# EAGLE library part XC2V80-4FG256C (library Xilinx_VirtexII-xc2v80-4fg256C)
Xilinx Virtex II, Schinko. Baier
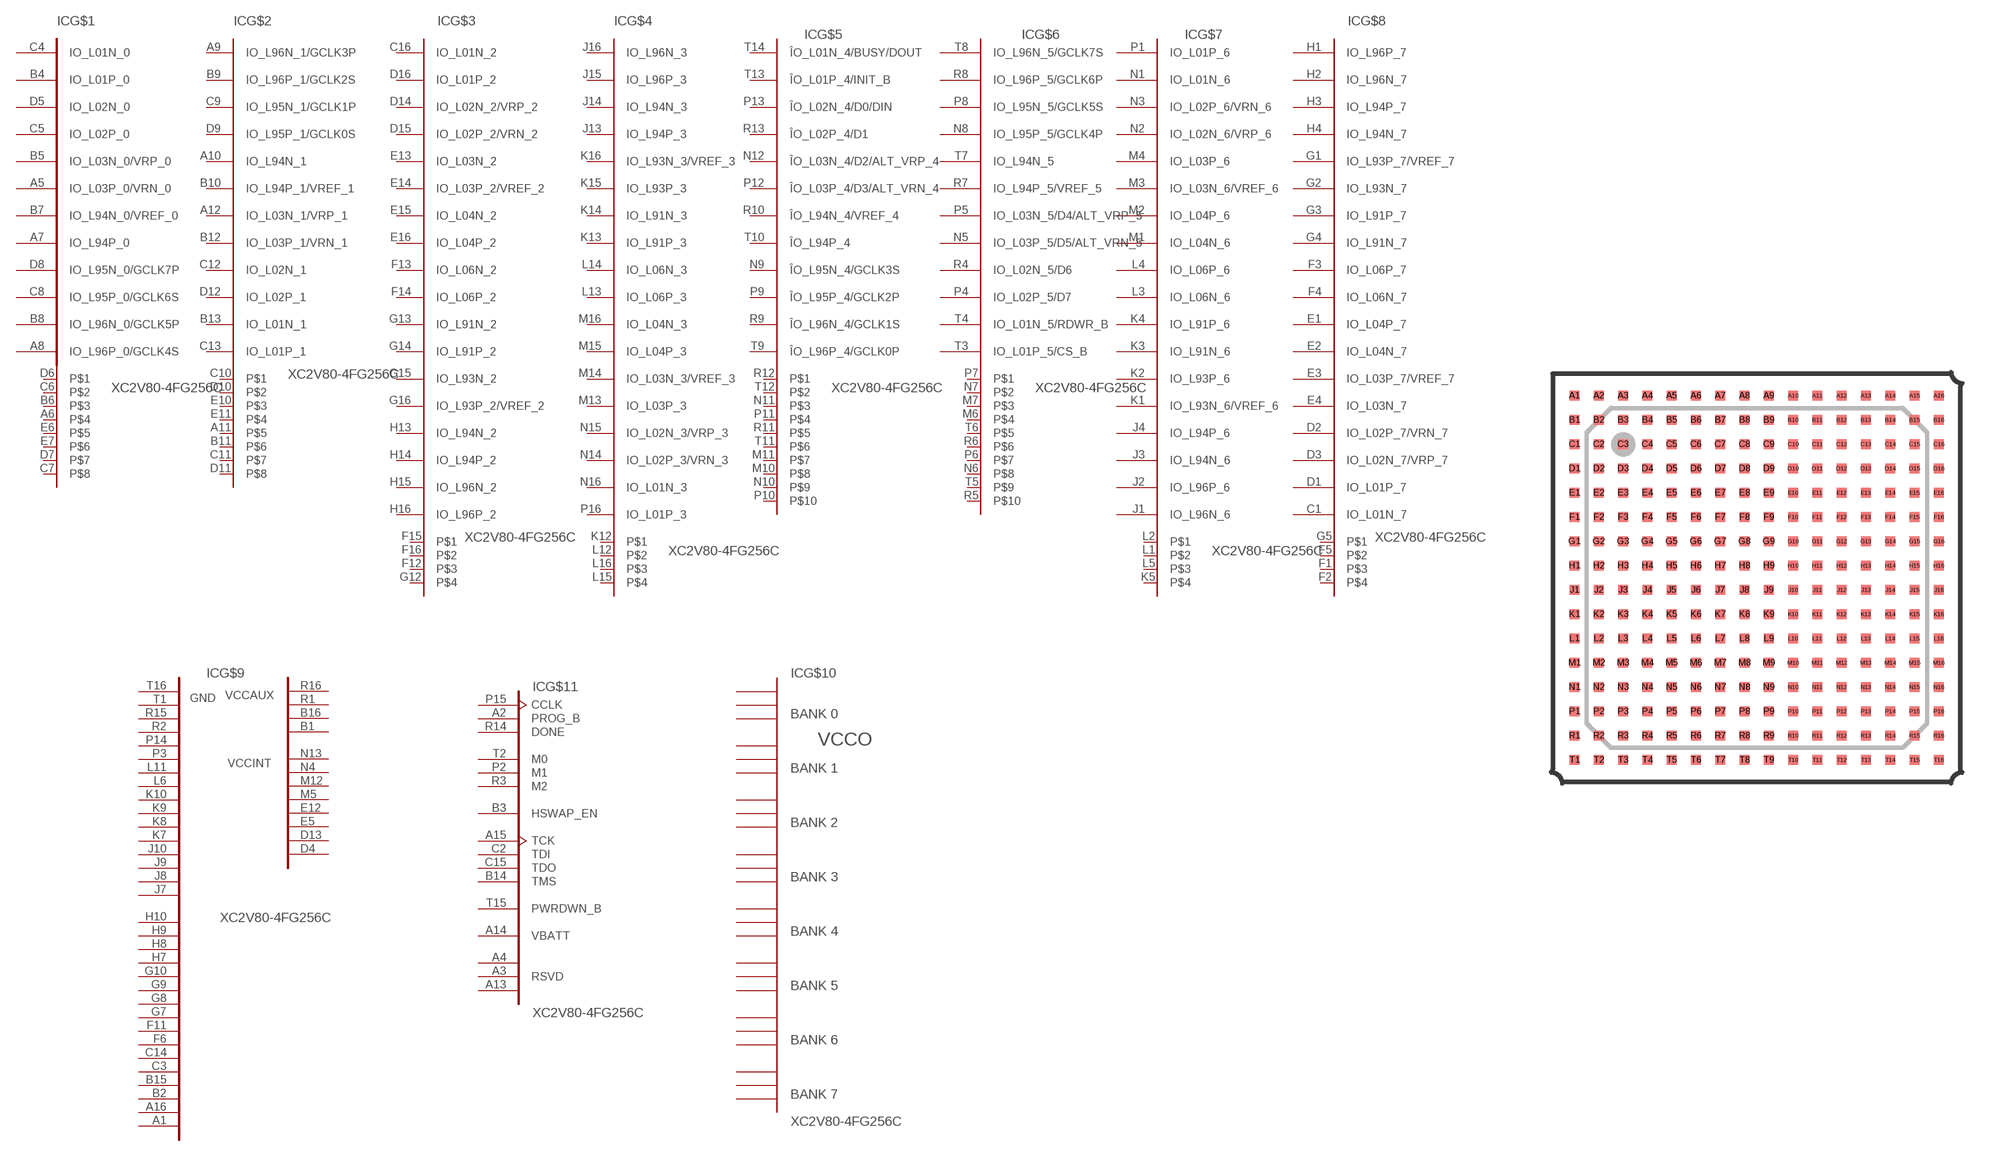
[diagram p0: symbol with the pads of FG256-BGA; footprint FG256-BGA]

Designator prefix IC; gates G$1=XC2V80-4FG256C-B0 G$2=XC2V80-4FG256C-B1 G$3=XC2V80-4FG256C-B2 G$4=XC2V80-4FG256C-B3 G$5=XC2V80-4FG256C-B4 G$6=XC2V80-4FG256C-B5 G$7=XC2V80-4FG256C-B6 G$8=XC2V80-4FG256C-B7 G$9=XC2V80-4FG256C-PWR G$10=XC2V80-4FG256C-VCCO G$11=XC2V80-4FG256C-CNT

## XC2V80-4FG256C  [FG256-BGA]
A1  G$9:GND  pwr
A2  G$11:PROG_B  in
A3  G$11:RSVD  nc
A4  G$11:RSVD  nc
A5  G$1:IO_L03P_0/VRN_0
A6  G$1:P$4  nc
A7  G$1:IO_L94P_0
A8  G$1:IO_L96P_0/GCLK4S
A9  G$2:IO_L96N_1/GCLK3P
A10  G$2:IO_L94N_1
A11  G$2:P$5  nc
A12  G$2:IO_L03N_1/VRP_1
A13  G$11:RSVD  nc
A14  G$11:VBATT  pwr
A15  G$11:TCK  in
A16  G$9:GND  pwr
B1  G$9:VCCAUX  pwr
B2  G$9:GND  pwr
B3  G$11:HSWAP_EN  in
B4  G$1:IO_L01P_0
B5  G$1:IO_L03N_0/VRP_0
B6  G$1:P$3  nc
B7  G$1:IO_L94N_0/VREF_0
B8  G$1:IO_L96N_0/GCLK5P
B9  G$2:IO_L96P_1/GCLK2S
B10  G$2:IO_L94P_1/VREF_1
B11  G$2:P$6  nc
B12  G$2:IO_L03P_1/VRN_1
B13  G$2:IO_L01N_1
B14  G$11:TMS  in
B15  G$9:GND  pwr
B16  G$9:VCCAUX  pwr
C1  G$8:IO_L01N_7
C2  G$11:TDI  in
C3  G$9:GND  pwr
C4  G$1:IO_L01N_0
C5  G$1:IO_L02P_0
C6  G$1:P$2  nc
C7  G$1:P$8  nc
C8  G$1:IO_L95P_0/GCLK6S
C9  G$2:IO_L95N_1/GCLK1P
C10  G$2:P$1  nc
C11  G$2:P$7  nc
C12  G$2:IO_L02N_1
C13  G$2:IO_L01P_1
C14  G$9:GND  pwr
C15  G$11:TDO  out
C16  G$3:IO_L01N_2
D1  G$8:IO_L01P_7
D2  G$8:IO_L02P_7/VRN_7
D3  G$8:IO_L02N_7/VRP_7
D4  G$9:VCCINT  pwr
D5  G$1:IO_L02N_0
D6  G$1:P$1  nc
D7  G$1:P$7  nc
D8  G$1:IO_L95N_0/GCLK7P
D9  G$2:IO_L95P_1/GCLK0S
D10  G$2:P$2  nc
D11  G$2:P$8  nc
D12  G$2:IO_L02P_1
D13  G$9:VCCINT  pwr
D14  G$3:IO_L02N_2/VRP_2
D15  G$3:IO_L02P_2/VRN_2
D16  G$3:IO_L01P_2
E1  G$8:IO_L04P_7
E2  G$8:IO_L04N_7
E3  G$8:IO_L03P_7/VREF_7
E4  G$8:IO_L03N_7
E5  G$9:VCCINT  pwr
E6  G$1:P$5  nc
E7  G$1:P$6  nc
E8  G$10:VCCO_0  pwr
E9  G$10:VCCO_1  pwr
E10  G$2:P$3  nc
E11  G$2:P$4  nc
E12  G$9:VCCINT  pwr
E13  G$3:IO_L03N_2
E14  G$3:IO_L03P_2/VREF_2
E15  G$3:IO_L04N_2
E16  G$3:IO_L04P_2
F1  G$8:P$3  nc
F2  G$8:P$4  nc
F3  G$8:IO_L06P_7
F4  G$8:IO_L06N_7
F5  G$8:P$2  nc
F6  G$9:GND  pwr
F7  G$10:VCCO_0  pwr
F8  G$10:VCCO_0  pwr
F9  G$10:VCCO_1  pwr
F10  G$10:VCCO_1  pwr
F11  G$9:GND  pwr
F12  G$3:P$3  nc
F13  G$3:IO_L06N_2
F14  G$3:IO_L06P_2
F15  G$3:P$1  nc
F16  G$3:P$2  nc
G1  G$8:IO_L93P_7/VREF_7
G2  G$8:IO_L93N_7
G3  G$8:IO_L91P_7
G4  G$8:IO_L91N_7
G5  G$8:P$1  nc
G6  G$10:VCCO_7  pwr
G7  G$9:GND  pwr
G8  G$9:GND  pwr
G9  G$9:GND  pwr
G10  G$9:GND  pwr
G11  G$10:VCCO_2  pwr
G12  G$3:P$4  nc
G13  G$3:IO_L91N_2
G14  G$3:IO_L91P_2
G15  G$3:IO_L93N_2
G16  G$3:IO_L93P_2/VREF_2
H1  G$8:IO_L96P_7
H2  G$8:IO_L96N_7
H3  G$8:IO_L94P_7
H4  G$8:IO_L94N_7
H5  G$10:VCCO_7  pwr
H6  G$10:VCCO_7  pwr
H7  G$9:GND  pwr
H8  G$9:GND  pwr
H9  G$9:GND  pwr
H10  G$9:GND  pwr
H11  G$10:VCCO_2  pwr
H12  G$10:VCCO_2  pwr
H13  G$3:IO_L94N_2
H14  G$3:IO_L94P_2
H15  G$3:IO_L96N_2
H16  G$3:IO_L96P_2
J1  G$7:IO_L96N_6
J2  G$7:IO_L96P_6
J3  G$7:IO_L94N_6
J4  G$7:IO_L94P_6
J5  G$10:VCCO_6  pwr
J6  G$10:VCCO_6  pwr
J7  G$9:GND  pwr
J8  G$9:GND  pwr
J9  G$9:GND  pwr
J10  G$9:GND  pwr
J11  G$10:VCCO_3  pwr
J12  G$10:VCCO_3  pwr
J13  G$4:IO_L94P_3
J14  G$4:IO_L94N_3
J15  G$4:IO_L96P_3
J16  G$4:IO_L96N_3
K1  G$7:IO_L93N_6/VREF_6
K2  G$7:IO_L93P_6
K3  G$7:IO_L91N_6
K4  G$7:IO_L91P_6
K5  G$7:P$4  nc
K6  G$10:VCCO_6  pwr
K7  G$9:GND  pwr
K8  G$9:GND  pwr
K9  G$9:GND  pwr
K10  G$9:GND  pwr
K11  G$10:VCCO_3  pwr
K12  G$4:P$1  nc
K13  G$4:IO_L91P_3
K14  G$4:IO_L91N_3
K15  G$4:IO_L93P_3
K16  G$4:IO_L93N_3/VREF_3
L1  G$7:P$2  nc
L2  G$7:P$1  nc
L3  G$7:IO_L06N_6
L4  G$7:IO_L06P_6
L5  G$7:P$3  nc
L6  G$9:GND  pwr
L7  G$10:VCCO_5  pwr
L8  G$10:VCCO_5  pwr
L9  G$10:VCCO_4  pwr
L10  G$10:VCCO_4  pwr
L11  G$9:GND  pwr
L12  G$4:P$2  nc
L13  G$4:IO_L06P_3
L14  G$4:IO_L06N_3
L15  G$4:P$4  nc
L16  G$4:P$3  nc
M1  G$7:IO_L04N_6
M2  G$7:IO_L04P_6
M3  G$7:IO_L03N_6/VREF_6
M4  G$7:IO_L03P_6
M5  G$9:VCCINT  pwr
M6  G$6:P$4  nc
M7  G$6:P$3  nc
M8  G$10:VCCO_5  pwr
M9  G$10:VCCO_4  pwr
M10  G$5:P$8  nc
M11  G$5:P$7  nc
M12  G$9:VCCINT  pwr
M13  G$4:IO_L03P_3
M14  G$4:IO_L03N_3/VREF_3
M15  G$4:IO_L04P_3
M16  G$4:IO_L04N_3
N1  G$7:IO_L01N_6
N2  G$7:IO_L02N_6/VRP_6
N3  G$7:IO_L02P_6/VRN_6
N4  G$9:VCCINT  pwr
N5  G$6:IO_L03P_5/D5/ALT_VRN_5
N6  G$6:P$8  nc
N7  G$6:P$2  nc
N8  G$6:IO_L95P_5/GCLK4P
N9  G$5:ÎO_L95N_4/GCLK3S
N10  G$5:P$9  nc
N11  G$5:P$3  nc
N12  G$5:ÎO_L03N_4/D2/ALT_VRP_4
N13  G$9:VCCINT  pwr
N14  G$4:IO_L02P_3/VRN_3
N15  G$4:IO_L02N_3/VRP_3
N16  G$4:IO_L01N_3
P1  G$7:IO_L01P_6
P2  G$11:M1  in
P3  G$9:GND  pwr
P4  G$6:IO_L02P_5/D7
P5  G$6:IO_L03N_5/D4/ALT_VRP_5
P6  G$6:P$7  nc
P7  G$6:P$1  nc
P8  G$6:IO_L95N_5/GCLK5S
P9  G$5:ÎO_L95P_4/GCLK2P
P10  G$5:P$10  nc
P11  G$5:P$4  nc
P12  G$5:ÎO_L03P_4/D3/ALT_VRN_4
P13  G$5:ÎO_L02N_4/D0/DIN
P14  G$9:GND  pwr
P15  G$11:CCLK
P16  G$4:IO_L01P_3
R1  G$9:VCCAUX  pwr
R2  G$9:GND  pwr
R3  G$11:M2  in
R4  G$6:IO_L02N_5/D6
R5  G$6:P$10  nc
R6  G$6:P$6  nc
R7  G$6:IO_L94P_5/VREF_5
R8  G$6:IO_L96P_5/GCLK6P
R9  G$5:ÎO_L96N_4/GCLK1S
R10  G$5:ÎO_L94N_4/VREF_4
R11  G$5:P$5  nc
R12  G$5:P$1  nc
R13  G$5:ÎO_L02P_4/D1
R14  G$11:DONE
R15  G$9:GND  pwr
R16  G$9:VCCAUX  pwr
T1  G$9:GND  pwr
T2  G$11:M0  in
T3  G$6:IO_L01P_5/CS_B
T4  G$6:IO_L01N_5/RDWR_B
T5  G$6:P$9  nc
T6  G$6:P$5  nc
T7  G$6:IO_L94N_5
T8  G$6:IO_L96N_5/GCLK7S
T9  G$5:ÎO_L96P_4/GCLK0P
T10  G$5:ÎO_L94P_4
T11  G$5:P$6  nc
T12  G$5:P$2  nc
T13  G$5:ÎO_L01P_4/INIT_B
T14  G$5:ÎO_L01N_4/BUSY/DOUT
T15  G$11:PWRDWN_B  in
T16  G$9:GND  pwr

## Footprint FG256-BGA (pad centres in mm)
smd 0.4 x 0.4: A1 1.39,16.39; A2 2.39,16.39; A3 3.39,16.39; A4 4.39,16.39; A5 5.39,16.39; A6 6.39,16.39; A7 7.39,16.39; A8 8.39,16.39; A9 9.39,16.39; A10 10.39,16.39; A11 11.39,16.39; A12 12.39,16.39; A13 13.39,16.39; A14 14.39,16.39; A15 15.39,16.39; A16 16.39,16.39; B1 1.39,15.39; B2 2.39,15.39; B3 3.39,15.39; B4 4.39,15.39; B5 5.39,15.39; B6 6.39,15.39; B7 7.39,15.39; B8 8.39,15.39; B9 9.39,15.39; B10 10.39,15.39; B11 11.39,15.39; B12 12.39,15.39; B13 13.39,15.39; B14 14.39,15.39; B15 15.39,15.39; B16 16.39,15.39; C1 1.39,14.39; C2 2.39,14.39; C3 3.39,14.39; C4 4.39,14.39; C5 5.39,14.39; C6 6.39,14.39; C7 7.39,14.39; C8 8.39,14.39; C9 9.39,14.39; C10 10.39,14.39; C11 11.39,14.39; C12 12.39,14.39; C13 13.39,14.39; C14 14.39,14.39; C15 15.39,14.39; C16 16.39,14.39; D1 1.39,13.39; D2 2.39,13.39; D3 3.39,13.39; D4 4.39,13.39; D5 5.39,13.39; D6 6.39,13.39; D7 7.39,13.39; D8 8.39,13.39; D9 9.39,13.39; D10 10.39,13.39; D11 11.39,13.39; D12 12.39,13.39; D13 13.39,13.39; D14 14.39,13.39; D15 15.39,13.39; D16 16.39,13.39; E1 1.39,12.39; E2 2.39,12.39; E3 3.39,12.39; E4 4.39,12.39; E5 5.39,12.39; E6 6.39,12.39; E7 7.39,12.39; E8 8.39,12.39; E9 9.39,12.39; E10 10.39,12.39; E11 11.39,12.39; E12 12.39,12.39; E13 13.39,12.39; E14 14.39,12.39; E15 15.39,12.39; E16 16.39,12.39; F1 1.39,11.39; F2 2.39,11.39; F3 3.39,11.39; F4 4.39,11.39; F5 5.39,11.39; F6 6.39,11.39; F7 7.39,11.39; F8 8.39,11.39; F9 9.39,11.39; F10 10.39,11.39; F11 11.39,11.39; F12 12.39,11.39; F13 13.39,11.39; F14 14.39,11.39; F15 15.39,11.39; F16 16.39,11.39; G1 1.39,10.39; G2 2.39,10.39; G3 3.39,10.39; G4 4.39,10.39; G5 5.39,10.39; G6 6.39,10.39; G7 7.39,10.39; G8 8.39,10.39; G9 9.39,10.39; G10 10.39,10.39; G11 11.39,10.39; G12 12.39,10.39; G13 13.39,10.39; G14 14.39,10.39; G15 15.39,10.39; G16 16.39,10.39; H1 1.39,9.39; H2 2.39,9.39; H3 3.39,9.39; H4 4.39,9.39; H5 5.39,9.39; H6 6.39,9.39; H7 7.39,9.39; H8 8.39,9.39; H9 9.39,9.39; H10 10.39,9.39; H11 11.39,9.39; H12 12.39,9.39; H13 13.39,9.39; H14 14.39,9.39; H15 15.39,9.39; H16 16.39,9.39; J1 1.39,8.39; J2 2.39,8.39; J3 3.39,8.39; J4 4.39,8.39; J5 5.39,8.39; J6 6.39,8.39; J7 7.39,8.39; J8 8.39,8.39; J9 9.39,8.39; J10 10.39,8.39; J11 11.39,8.39; J12 12.39,8.39; J13 13.39,8.39; J14 14.39,8.39; J15 15.39,8.39; J16 16.39,8.39; K1 1.39,7.39; K2 2.39,7.39; K3 3.39,7.39; K4 4.39,7.39; K5 5.39,7.39; K6 6.39,7.39; K7 7.39,7.39; K8 8.39,7.39; K9 9.39,7.39; K10 10.39,7.39; K11 11.39,7.39; K12 12.39,7.39; K13 13.39,7.39; K14 14.39,7.39; K15 15.39,7.39; K16 16.39,7.39; L1 1.39,6.39; L2 2.39,6.39; L3 3.39,6.39; L4 4.39,6.39; L5 5.39,6.39; L6 6.39,6.39; L7 7.39,6.39; L8 8.39,6.39; L9 9.39,6.39; L10 10.39,6.39; L11 11.39,6.39; L12 12.39,6.39; L13 13.39,6.39; L14 14.39,6.39; L15 15.39,6.39; L16 16.39,6.39; M1 1.39,5.39; M2 2.39,5.39; M3 3.39,5.39; M4 4.39,5.39; M5 5.39,5.39; M6 6.39,5.39; M7 7.39,5.39; M8 8.39,5.39; M9 9.39,5.39; M10 10.39,5.39; M11 11.39,5.39; M12 12.39,5.39; M13 13.39,5.39; M14 14.39,5.39; M15 15.39,5.39; M16 16.39,5.39; N1 1.39,4.39; N2 2.39,4.39; N3 3.39,4.39; N4 4.39,4.39; N5 5.39,4.39; N6 6.39,4.39; N7 7.39,4.39; N8 8.39,4.39; N9 9.39,4.39; N10 10.39,4.39; N11 11.39,4.39; N12 12.39,4.39; N13 13.39,4.39; N14 14.39,4.39; N15 15.39,4.39; N16 16.39,4.39; P1 1.39,3.39; P2 2.39,3.39; P3 3.39,3.39; P4 4.39,3.39; P5 5.39,3.39; P6 6.39,3.39; P7 7.39,3.39; P8 8.39,3.39; P9 9.39,3.39; P10 10.39,3.39; P11 11.39,3.39; P12 12.39,3.39; P13 13.39,3.39; P14 14.39,3.39; P15 15.39,3.39; P16 16.39,3.39; R1 1.39,2.39; R2 2.39,2.39; R3 3.39,2.39; R4 4.39,2.39; R5 5.39,2.39; R6 6.39,2.39; R7 7.39,2.39; R8 8.39,2.39; R9 9.39,2.39; R10 10.39,2.39; R11 11.39,2.39; R12 12.39,2.39; R13 13.39,2.39; R14 14.39,2.39; R15 15.39,2.39; R16 16.39,2.39; T1 1.39,1.39; T2 2.39,1.39; T3 3.39,1.39; T4 4.39,1.39; T5 5.39,1.39; T6 6.39,1.39; T7 7.39,1.39; T8 8.39,1.39; T9 9.39,1.39; T10 10.39,1.39; T11 11.39,1.39; T12 12.39,1.39; T13 13.39,1.39; T14 14.39,1.39; T15 15.39,1.39; T16 16.39,1.39